# Altium footprint library WR-TBL_Spring Clamp_5.00mm.PcbLib: 78 footprints (part 2 of 5)
Each footprint in its own frame and in the unit in brackets; x right, y up, seen from the top. Pads: shape width x height; smd on the part's side, far side on the other; paste and mask are expansions set on the pad; w line width, h text height; cw(c..) or ccw(c..) is an arc to the next point about the centre after c.
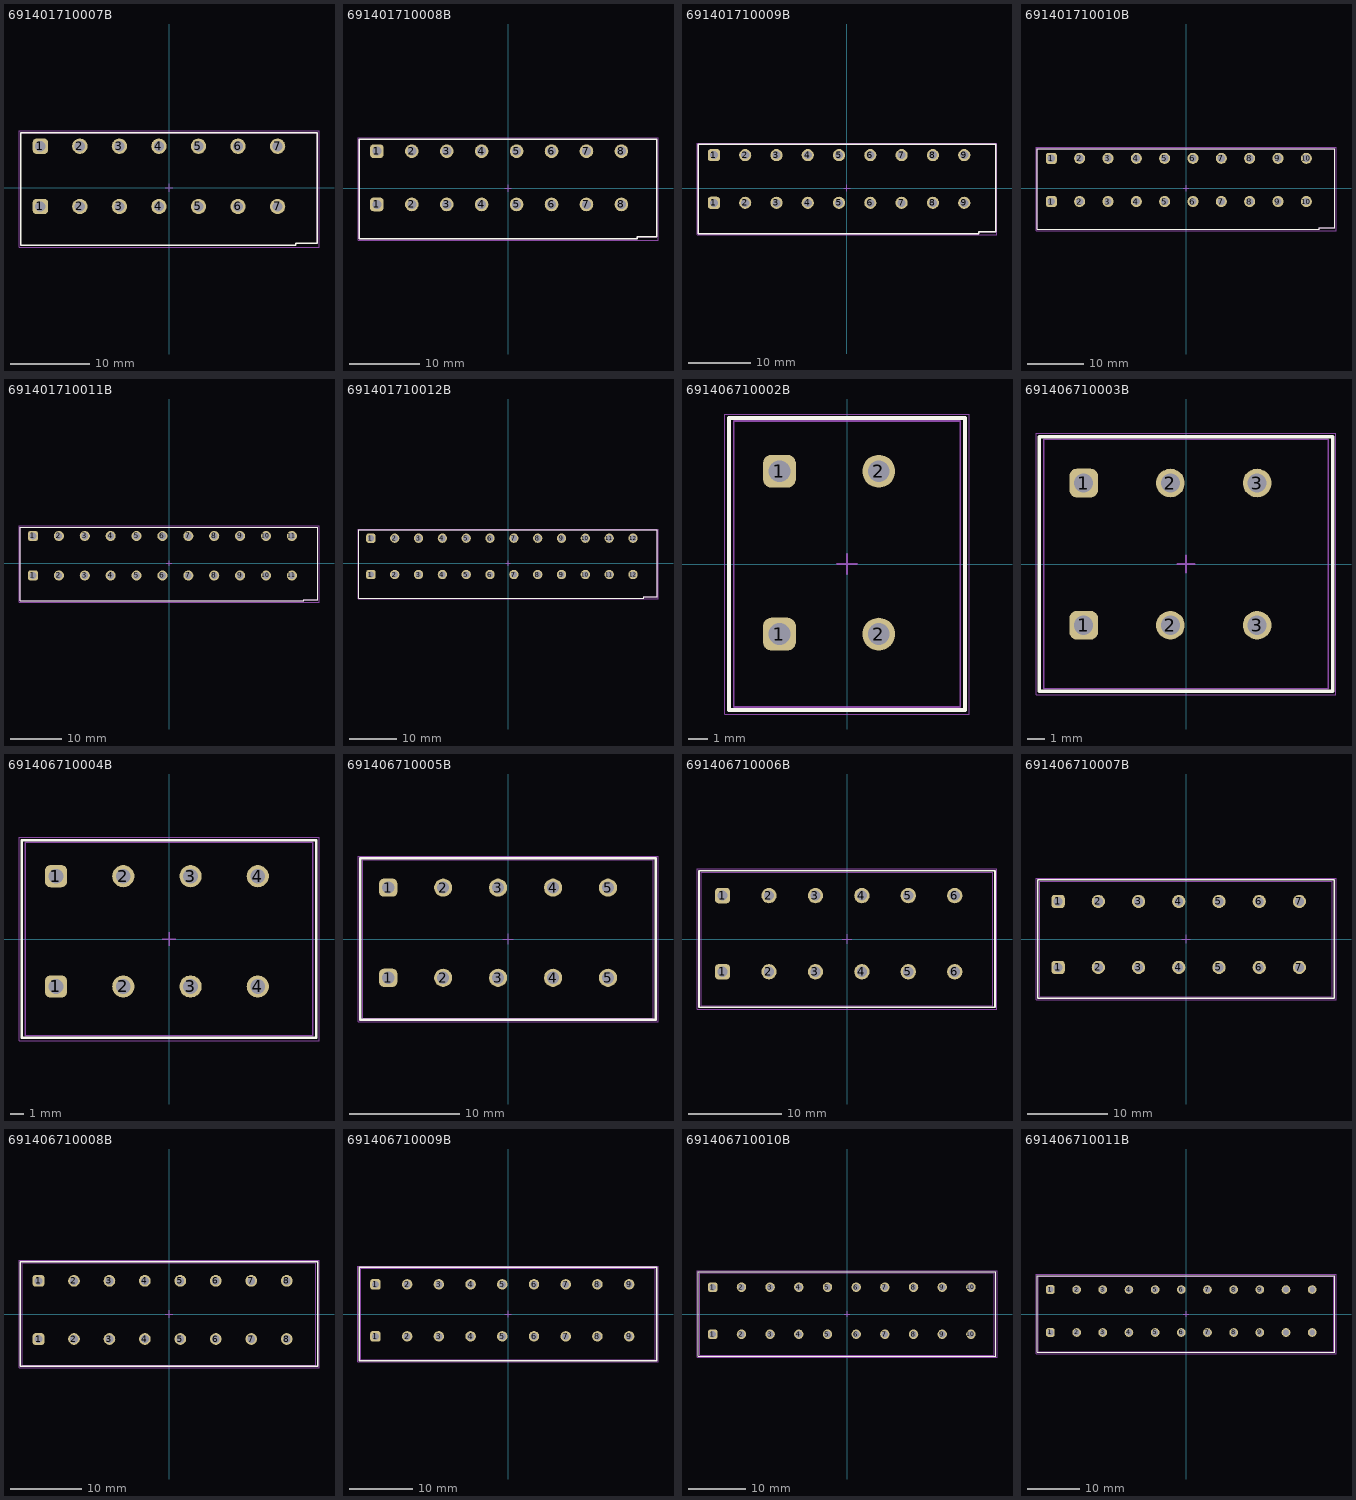
[diagram p1: the footprints below, top view; thin cyan lines are the x and y axes]

## 691401710007B [mm] "5.00 mm Screwless Horizontal Entry - 2.0 mm2 Wires, 7p"
height 13
pads (14):
  rrect50% 1.95x1.95 hole 1.3: 1(-16.27,-2.35) 1(-16.27,5.27)
  round 1.95 hole 1.3: 2(-11.27,-2.35) 2(-11.27,5.27) 3(-6.27,-2.35) 3(-6.27,5.27) 4(-1.27,-2.35) 4(-1.27,5.27) 5(3.73,-2.35) 5(3.73,5.27) 6(8.73,-2.35) 6(8.73,5.27) 7(13.73,-2.35) 7(13.73,5.27)
Top Overlay:
  lines w0.2: -18.77,-7.28 16.03,-7.28 16.03,-7 18.77,-7 18.77,7 -18.77,7 -18.77,-7.275
Top Assembly:
  lines w0.1: -18.77,-7.28 16.03,-7.28 16.03,-7 18.77,-7 18.77,7 -18.77,7 -18.77,-7.275
Top Designator:
  text ".Designator" at -3.647,-0.357 h1
Top 3D Body:
  lines w0.1: -18.77,-7.28 16.03,-7.28 16.03,-7 18.77,-7 18.77,7 -18.77,7 -18.77,-7.275
Top Courtyard:
  lines w0.05: -18.97,-7.48 18.97,-7.48 18.97,7.2 -18.97,7.2 -18.97,-7.48
Top Component Center:
  lines w0.1: -0.5,0 0.5,0 ; 0,-0.5 0,0.5
3D body "691401710007B.stp": height 13.1, standoff -3.35, extent -18.77,-7.28 18.77,6.995

## 691401710008B [mm] "5.00 mm Screwless Horizontal Entry - 2.0 mm2 Wires, 8p"
height 13
pads (16):
  rrect50% 1.95x1.95 hole 1.3: 1(-18.77,-2.35) 1(-18.77,5.27)
  round 1.95 hole 1.3: 2(-13.77,-2.35) 2(-13.77,5.27) 3(-8.77,-2.35) 3(-8.77,5.27) 4(-3.77,-2.35) 4(-3.77,5.27) 5(1.23,-2.35) 5(1.23,5.27) 6(6.23,-2.35) 6(6.23,5.27) 7(11.23,-2.35) 7(11.23,5.27) 8(16.23,-2.35) 8(16.23,5.27)
Top Overlay:
  lines w0.2: -21.27,-7.28 18.53,-7.28 18.53,-7 21.27,-7 21.27,7 -21.27,7 -21.27,-7.275
Top Assembly:
  lines w0.1: -21.27,-7.28 18.53,-7.28 18.53,-7 21.27,-7 21.27,7 -21.27,7 -21.27,-7.275
Top Designator:
  text ".Designator" at -3.647,-0.357 h1
Top 3D Body:
  lines w0.1: -21.27,-7.28 18.53,-7.28 18.53,-7 21.27,-7 21.27,7 -21.27,7 -21.27,-7.275
Top Courtyard:
  lines w0.05: -21.47,-7.48 -21.47,7.2 21.47,7.2 21.47,-7.48 -21.47,-7.48
Top Component Center:
  lines w0.1: -0.5,0 0.5,0 ; 0,-0.5 0,0.5
3D body "691401710008B.stp": height 13.1, standoff -3.35, extent -21.27,-7.28 21.27,6.995

## 691401710009B [mm] "5.00 mm Screwless Horizontal Entry - 2.0 mm2 Wires, 9p"
height 13
pads (18):
  rrect50% 1.95x1.95 hole 1.3: 1(-21.27,-2.35) 1(-21.27,5.27)
  round 1.95 hole 1.3: 2(-16.27,-2.35) 2(-16.27,5.27) 3(-11.27,-2.35) 3(-11.27,5.27) 4(-6.27,-2.35) 4(-6.27,5.27) 5(-1.27,-2.35) 5(-1.27,5.27) 6(3.73,-2.35) 6(3.73,5.27) 7(8.73,-2.35) 7(8.73,5.27) 8(13.73,-2.35) 8(13.73,5.27) 9(18.73,-2.35) 9(18.73,5.27)
Top Overlay:
  lines w0.2: -23.77,-7.28 21.03,-7.28 21.03,-7 23.77,-7 23.77,7 -23.77,7 -23.77,-7.275
Top Assembly:
  lines w0.1: -23.77,-7.28 21.03,-7.28 21.03,-7 23.77,-7 23.77,7 -23.77,7 -23.77,-7.275
Top Designator:
  text ".Designator" at -3.647,-0.357 h1
Top 3D Body:
  lines w0.1: -23.77,-7.28 21.03,-7.28 21.03,-7 23.77,-7 23.77,7 -23.77,7 -23.77,-7.275
Top Courtyard:
  lines w0.05: -23.97,-7.48 -23.97,7.2 23.97,7.2 23.97,-7.48 -23.97,-7.48
Top Component Center:
  lines w0.1: -0.5,0 0.5,0 ; 0,-0.5 0,0.5
3D body "691401710009B.stp": height 13.1, standoff -3.35, extent -23.77,-7.28 23.77,6.995

## 691401710010B [mm] "5.00 mm Screwless Horizontal Entry - 2.0 mm2 Wires, 10p"
height 13
pads (20):
  rrect50% 1.95x1.95 hole 1.3: 1(-23.77,-2.35) 1(-23.77,5.27)
  round 1.95 hole 1.3: 2(-18.77,-2.35) 2(-18.77,5.27) 3(-13.77,-2.35) 3(-13.77,5.27) 4(-8.77,-2.35) 4(-8.77,5.27) 5(-3.77,-2.35) 5(-3.77,5.27) 6(1.23,-2.35) 6(1.23,5.27) 7(6.23,-2.35) 7(6.23,5.27) 8(11.23,-2.35) 8(11.23,5.27) 9(16.23,-2.35) 9(16.23,5.27) 10(21.23,-2.35) 10(21.23,5.27)
Top Overlay:
  lines w0.2: -26.27,-7.28 23.53,-7.28 23.53,-7 26.27,-7 26.27,7 -26.27,7 -26.27,-7.275
Top Assembly:
  lines w0.1: -26.27,-7.28 23.53,-7.28 23.53,-7 26.27,-7 26.27,7 -26.27,7 -26.27,-7.275
Top Designator:
  text ".Designator" at -3.647,-0.357 h1
Top 3D Body:
  lines w0.1: -26.27,-7.28 23.53,-7.28 23.53,-7 26.27,-7 26.27,7 -26.27,7 -26.27,-7.275
Top Courtyard:
  lines w0.05: -26.47,-7.48 -26.47,7.2 26.47,7.2 26.47,-7.48 -26.47,-7.48
Top Component Center:
  lines w0.1: -0.5,0 0.5,0 ; 0,-0.5 0,0.5
3D body "691401710010B.stp": height 13.1, standoff -3.35, extent -26.27,-7.28 26.27,6.995

## 691401710011B [mm] "5.00 mm Screwless Horizontal Entry - 2.0 mm2 Wires, 11p"
height 13
pads (22):
  rrect50% 1.95x1.95 hole 1.3: 1(-26.27,-2.35) 1(-26.27,5.27)
  round 1.95 hole 1.3: 2(-21.27,-2.35) 2(-21.27,5.27) 3(-16.27,-2.35) 3(-16.27,5.27) 4(-11.27,-2.35) 4(-11.27,5.27) 5(-6.27,-2.35) 5(-6.27,5.27) 6(-1.27,-2.35) 6(-1.27,5.27) 7(3.73,-2.35) 7(3.73,5.27) 8(8.73,-2.35) 8(8.73,5.27) 9(13.73,-2.35) 9(13.73,5.27) 10(18.73,-2.35) 10(18.73,5.27) 11(23.73,-2.35) 11(23.73,5.27)
Top Overlay:
  lines w0.2: -28.77,-7.28 26.03,-7.28 26.03,-7 28.77,-7 28.77,7 -28.77,7 -28.77,-7.275
Top Assembly:
  lines w0.1: -28.77,-7.28 26.03,-7.28 26.03,-7 28.77,-7 28.77,7 -28.77,7 -28.77,-7.275
Top Designator:
  text ".Designator" at -3.647,-0.357 h1
Top 3D Body:
  lines w0.1: -28.77,-7.28 26.03,-7.28 26.03,-7 28.77,-7 28.77,7 -28.77,7 -28.77,-7.275
Top Courtyard:
  lines w0.05: -28.97,-7.48 28.97,-7.48 28.97,7.2 -28.97,7.2 -28.97,-7.48
Top Component Center:
  lines w0.1: -0.5,0 0.5,0 ; 0,-0.5 0,0.5
3D body "691401710011B.stp": height 13.1, standoff -3.35, extent -28.77,-7.28 28.77,6.995

## 691401710012B [mm] "5.00 mm Screwless Horizontal Entry - 2.0 mm2 Wires, 12p"
height 13
pads (24):
  rrect50% 1.95x1.95 hole 1.3: 1(-28.77,-2.35) 1(-28.77,5.27)
  round 1.95 hole 1.3: 2(-23.77,-2.35) 2(-23.77,5.27) 3(-18.77,-2.35) 3(-18.77,5.27) 4(-13.77,-2.35) 4(-13.77,5.27) 5(-8.77,-2.35) 5(-8.77,5.27) 6(-3.77,-2.35) 6(-3.77,5.27) 7(1.23,-2.35) 7(1.23,5.27) 8(6.23,-2.35) 8(6.23,5.27) 9(11.23,-2.35) 9(11.23,5.27) 10(16.23,-2.35) 10(16.23,5.27) 11(21.23,-2.35) 11(21.23,5.27) 12(26.23,-2.35) 12(26.23,5.27)
Top Overlay:
  lines w0.2: -31.27,-7.28 28.53,-7.28 28.53,-7 31.27,-7 31.27,7 -31.27,7 -31.27,-7.275
Top Assembly:
  lines w0.1: -31.27,-7.28 28.53,-7.28 28.53,-7 31.27,-7 31.27,7 -31.27,7 -31.27,-7.275
Top Designator:
  text ".Designator" at -3.647,-0.357 h1
Top 3D Body:
  lines w0.1: -31.27,-7.28 28.53,-7.28 28.53,-7 31.27,-7 31.27,7 -31.27,7 -31.27,-7.275
Top Courtyard:
  lines w0.05: -31.47,-7.48 -31.47,7.2 31.47,7.2 31.47,-7.48 -31.47,-7.48
Top Component Center:
  lines w0.1: -0.5,0 0.5,0 ; 0,-0.5 0,0.5
3D body "691401710012B.stp": height 13.1, standoff -3.35, extent -31.27,-7.28 31.27,6.995

## 691406710002B [mm] "5.0MM HORIZONTAL SCREWLESS PUSH IN, 2p"
height 13.5
pads (4):
  rrect50% 1.65x1.65 hole 1.1: 1(-3.4,-3.53) 1(-3.4,4.67)
  round 1.65 hole 1.1: 2(1.6,-3.53) 2(1.6,4.67)
Top Overlay:
  lines w0.2: -5.95,-7.35 -5.95,7.35 5.95,7.35 5.95,-7.35 -5.95,-7.35
Top Assembly:
  lines w0.1: -5.7,-7.2 -5.7,7.2 5.7,7.2 5.7,-7.2 -5.7,-7.2
Top Designator:
  text ".Designator" at -3.647,-0.357 h1
Top 3D Body:
  lines w0.1: -5.7,-7.2 5.7,-7.2 5.7,7.2 -5.7,7.2 -5.7,-7.2
Top Courtyard:
  lines w0.05: -6.15,-7.55 6.15,-7.55 6.15,7.55 -6.15,7.55 -6.15,-7.55
Top Component Center:
  lines w0.1: -0.5,0 0.5,0 ; 0,-0.5 0,0.5
3D body "691406710002B.stp": height 13.55, standoff -2.45, extent -5.7,-7.2 5.7,7.2

## 691406710003B [mm] "5.0MM HORIZONTAL SCREWLESS PUSH IN, 3p"
height 13.5
pads (6):
  rrect50% 1.65x1.65 hole 1.1: 1(-5.9,-3.53) 1(-5.9,4.67)
  round 1.65 hole 1.1: 2(-0.9,-3.53) 2(-0.9,4.67) 3(4.1,-3.53) 3(4.1,4.67)
Top Overlay:
  lines w0.2: -8.45,-7.35 -8.45,7.35 8.45,7.35 8.45,-7.35 -8.45,-7.35
Top Assembly:
  lines w0.1: -8.2,-7.2 -8.2,7.2 8.2,7.2 8.2,-7.2 -8.2,-7.2
Top Designator:
  text ".Designator" at -3.647,-0.357 h1
Top 3D Body:
  lines w0.1: -8.2,-7.2 8.2,-7.2 8.2,7.2 -8.2,7.2 -8.2,-7.2
Top Courtyard:
  lines w0.05: -8.65,-7.55 8.65,-7.55 8.65,7.55 -8.65,7.55 -8.65,-7.55
Top Component Center:
  lines w0.1: -0.5,0 0.5,0 ; 0,-0.5 0,0.5
3D body "691406710003B.stp": height 13.55, standoff -2.45, extent -8.2,-7.2 8.2,7.2

## 691406710004B [mm] "5.0MM HORIZONTAL SCREWLESS PUSH IN, 4p"
height 13.5
pads (8):
  rrect50% 1.65x1.65 hole 1.1: 1(-8.4,-3.53) 1(-8.4,4.67)
  round 1.65 hole 1.1: 2(-3.4,-3.53) 2(-3.4,4.67) 3(1.6,-3.53) 3(1.6,4.67) 4(6.6,-3.53) 4(6.6,4.67)
Top Overlay:
  lines w0.2: -10.95,-7.35 10.95,-7.35 10.95,7.35 -10.95,7.35 -10.95,-7.35
Top Assembly:
  lines w0.1: -10.7,-7.2 10.7,-7.2 10.7,7.2 -10.7,7.2 -10.7,-7.2
Top Designator:
  text ".Designator" at -3.647,-0.357 h1
Top 3D Body:
  lines w0.1: -10.7,-7.2 -10.7,7.2 10.7,7.2 10.7,-7.2 -10.7,-7.2
Top Courtyard:
  lines w0.05: -11.15,-7.55 -11.15,7.55 11.15,7.55 11.15,-7.55 -11.15,-7.55
Top Component Center:
  lines w0.1: -0.5,0 0.5,0 ; 0,-0.5 0,0.5
3D body "691406710004B.stp": height 13.55, standoff -2.45, extent -10.7,-7.2 10.7,7.2

## 691406710005B [mm] "5.0MM HORIZONTAL SCREWLESS PUSH IN, 5p"
height 13.5
pads (10):
  rrect50% 1.65x1.65 hole 1.1: 1(-10.9,-3.53) 1(-10.9,4.67)
  round 1.65 hole 1.1: 2(-5.9,-3.53) 2(-5.9,4.67) 3(-0.9,-3.53) 3(-0.9,4.67) 4(4.1,-3.53) 4(4.1,4.67) 5(9.1,-3.53) 5(9.1,4.67)
Top Overlay:
  lines w0.2: -13.45,-7.35 13.45,-7.35 13.45,7.35 -13.45,7.35 -13.45,-7.35
Top Assembly:
  lines w0.1: -13.2,-7.2 13.2,-7.2 13.2,7.2 -13.2,7.2 -13.2,-7.2
Top Designator:
  text ".Designator" at -3.647,-0.357 h1
Top 3D Body:
  lines w0.1: -13.2,-7.2 -13.2,7.2 13.2,7.2 13.2,-7.2 -13.2,-7.2
Top Courtyard:
  lines w0.05: -13.65,-7.55 -13.65,7.55 13.65,7.55 13.65,-7.55 -13.65,-7.55
Top Component Center:
  lines w0.1: -0.5,0 0.5,0 ; 0,-0.5 0,0.5
3D body "691406710005B.stp": height 13.55, standoff -2.45, extent -13.2,-7.2 13.2,7.2

## 691406710006B [mm] "5.0MM HORIZONTAL SCREWLESS PUSH IN, 6p"
height 13.5
pads (12):
  rrect50% 1.65x1.65 hole 1.1: 1(-13.4,-3.53) 1(-13.4,4.67)
  round 1.65 hole 1.1: 2(-8.4,-3.53) 2(-8.4,4.67) 3(-3.4,-3.53) 3(-3.4,4.67) 4(1.6,-3.53) 4(1.6,4.67) 5(6.6,-3.53) 5(6.6,4.67) 6(11.6,-3.53) 6(11.6,4.67)
Top Overlay:
  lines w0.2: -15.95,-7.35 15.95,-7.35 15.95,7.35 -15.95,7.35 -15.95,-7.35
Top Assembly:
  lines w0.1: -15.7,-7.2 15.7,-7.2 15.7,7.2 -15.7,7.2 -15.7,-7.2
Top Designator:
  text ".Designator" at -3.647,-0.357 h1
Top 3D Body:
  lines w0.1: -15.7,-7.2 -15.7,7.2 15.7,7.2 15.7,-7.2 -15.7,-7.2
Top Courtyard:
  lines w0.05: -16.15,-7.55 -16.15,7.55 16.15,7.55 16.15,-7.55 -16.15,-7.55
Top Component Center:
  lines w0.1: -0.5,0 0.5,0 ; 0,-0.5 0,0.5
3D body "691406710006B.stp": height 13.55, standoff -2.45, extent -15.7,-7.2 15.7,7.2

## 691406710007B [mm] "5.0MM HORIZONTAL SCREWLESS PUSH IN, 7p"
height 13.5
pads (14):
  rrect50% 1.65x1.65 hole 1.1: 1(-15.9,-3.53) 1(-15.9,4.67)
  round 1.65 hole 1.1: 2(-10.9,-3.53) 2(-10.9,4.67) 3(-5.9,-3.53) 3(-5.9,4.67) 4(-0.9,-3.53) 4(-0.9,4.67) 5(4.1,-3.53) 5(4.1,4.67) 6(9.1,-3.53) 6(9.1,4.67) 7(14.1,-3.53) 7(14.1,4.67)
Top Overlay:
  lines w0.2: -18.45,-7.35 -18.45,7.35 18.45,7.35 18.45,-7.35 -18.45,-7.35
Top Assembly:
  lines w0.1: -18.2,-7.2 -18.2,7.2 18.2,7.2 18.2,-7.2 -18.2,-7.2
Top Designator:
  text ".Designator" at -3.647,-0.357 h1
Top 3D Body:
  lines w0.1: -18.2,-7.2 18.2,-7.2 18.2,7.2 -18.2,7.2 -18.2,-7.2
Top Courtyard:
  lines w0.05: -18.65,-7.55 18.65,-7.55 18.65,7.55 -18.65,7.55 -18.65,-7.55
Top Component Center:
  lines w0.1: -0.5,0 0.5,0 ; 0,-0.5 0,0.5
3D body "691406710007B.stp": height 13.55, standoff -2.45, extent -18.2,-7.2 18.2,7.2

## 691406710008B [mm] "5.0MM HORIZONTAL SCREWLESS PUSH IN, 8p"
height 13.5
pads (16):
  rrect50% 1.65x1.65 hole 1.1: 1(-18.4,-3.53) 1(-18.4,4.67)
  round 1.65 hole 1.1: 2(-13.4,-3.53) 2(-13.4,4.67) 3(-8.4,-3.53) 3(-8.4,4.67) 4(-3.4,-3.53) 4(-3.4,4.67) 5(1.6,-3.53) 5(1.6,4.67) 6(6.6,-3.53) 6(6.6,4.67) 7(11.6,-3.53) 7(11.6,4.67) 8(16.6,-3.53) 8(16.6,4.67)
Top Overlay:
  lines w0.2: -20.95,-7.35 -20.95,7.35 20.95,7.35 20.95,-7.35 -20.95,-7.35
Top Assembly:
  lines w0.1: -20.7,-7.2 -20.7,7.2 20.7,7.2 20.7,-7.2 -20.7,-7.2
Top Designator:
  text ".Designator" at -3.647,-0.357 h1
Top 3D Body:
  lines w0.1: -20.7,-7.2 20.7,-7.2 20.7,7.2 -20.7,7.2 -20.7,-7.2
Top Courtyard:
  lines w0.05: -21.15,-7.55 21.15,-7.55 21.15,7.55 -21.15,7.55 -21.15,-7.55
Top Component Center:
  lines w0.1: -0.5,0 0.5,0 ; 0,-0.5 0,0.5
3D body "691406710008B.stp": height 13.55, standoff -2.45, extent -20.7,-7.2 20.7,7.2

## 691406710009B [mm] "5.0MM HORIZONTAL SCREWLESS PUSH IN, 9p"
height 13.5
pads (18):
  rrect50% 1.65x1.65 hole 1.1: 1(-20.9,-3.53) 1(-20.9,4.67)
  round 1.65 hole 1.1: 2(-15.9,-3.53) 2(-15.9,4.67) 3(-10.9,-3.53) 3(-10.9,4.67) 4(-5.9,-3.53) 4(-5.9,4.67) 5(-0.9,-3.53) 5(-0.9,4.67) 6(4.1,-3.53) 6(4.1,4.67) 7(9.1,-3.53) 7(9.1,4.67) 8(14.1,-3.53) 8(14.1,4.67) 9(19.1,-3.53) 9(19.1,4.67)
Top Overlay:
  lines w0.2: -23.45,-7.35 23.45,-7.35 23.45,7.35 -23.45,7.35 -23.45,-7.35
Top Assembly:
  lines w0.1: -23.2,-7.2 23.2,-7.2 23.2,7.2 -23.2,7.2 -23.2,-7.2
Top Designator:
  text ".Designator" at -3.647,-0.357 h1
Top 3D Body:
  lines w0.1: -23.2,-7.2 -23.2,7.2 23.2,7.2 23.2,-7.2 -23.2,-7.2
Top Courtyard:
  lines w0.05: -23.65,-7.55 -23.65,7.55 23.65,7.55 23.65,-7.55 -23.65,-7.55
Top Component Center:
  lines w0.1: -0.5,0 0.5,0 ; 0,-0.5 0,0.5
3D body "691406710009B.stp": height 13.55, standoff -2.45, extent -23.2,-7.2 23.2,7.2

## 691406710010B [mm] "5.0MM HORIZONTAL SCREWLESS PUSH IN, 10p"
height 13.5
pads (20):
  rrect50% 1.65x1.65 hole 1.1: 1(-23.4,-3.53) 1(-23.4,4.67)
  round 1.65 hole 1.1: 2(-18.4,-3.53) 2(-18.4,4.67) 3(-13.4,-3.53) 3(-13.4,4.67) 4(-8.4,-3.53) 4(-8.4,4.67) 5(-3.4,-3.53) 5(-3.4,4.67) 6(1.6,-3.53) 6(1.6,4.67) 7(6.6,-3.53) 7(6.6,4.67) 8(11.6,-3.53) 8(11.6,4.67) 9(16.6,-3.53) 9(16.6,4.67) 10(21.6,-3.53) 10(21.6,4.67)
Top Overlay:
  lines w0.2: -25.95,-7.35 25.95,-7.35 25.95,7.35 -25.95,7.35 -25.95,-7.35
Top Assembly:
  lines w0.1: -25.7,-7.2 25.7,-7.2 25.7,7.2 -25.7,7.2 -25.7,-7.2
Top Designator:
  text ".Designator" at -3.647,-0.357 h1
Top 3D Body:
  lines w0.1: -25.7,-7.2 -25.7,7.2 25.7,7.2 25.7,-7.2 -25.7,-7.2
Top Courtyard:
  lines w0.05: -26.15,-7.55 -26.15,7.55 26.15,7.55 26.15,-7.55 -26.15,-7.55
Top Component Center:
  lines w0.1: -0.5,0 0.5,0 ; 0,-0.5 0,0.5
3D body "691406710010B.stp": height 13.55, standoff -2.45, extent -25.7,-7.2 25.7,7.2

## 691406710011B [mm] "5.0MM HORIZONTAL SCREWLESS PUSH IN, 11p"
height 13.5
pads (22):
  rrect50% 1.65x1.65 hole 1.1: 1(-25.9,-3.53) 1(-25.9,4.67)
  round 1.65 hole 1.1: 2(-20.9,-3.53) 2(-20.9,4.67) 3(-15.9,-3.53) 3(-15.9,4.67) 4(-10.9,-3.53) 4(-10.9,4.67) 5(-5.9,-3.53) 5(-5.9,4.67) 6(-0.9,-3.53) 6(-0.9,4.67) 7(4.1,-3.53) 7(4.1,4.67) 8(9.1,-3.53) 8(9.1,4.67) 9(14.1,-3.53) 9(14.1,4.67) 10(19.1,-3.53) 10(19.1,4.67) 11(24.1,-3.53) 11(24.1,4.67)
Top Overlay:
  lines w0.2: -28.45,-7.35 28.45,-7.35 28.45,7.35 -28.45,7.35 -28.45,-7.35
Top Assembly:
  lines w0.1: -28.2,-7.2 28.2,-7.2 28.2,7.2 -28.2,7.2 -28.2,-7.2
Top Designator:
  text ".Designator" at -3.647,-0.357 h1
Top 3D Body:
  lines w0.1: -28.2,-7.2 -28.2,7.2 28.2,7.2 28.2,-7.2 -28.2,-7.2
Top Courtyard:
  lines w0.05: -28.65,-7.55 -28.65,7.55 28.65,7.55 28.65,-7.55 -28.65,-7.55
Top Component Center:
  lines w0.1: -0.5,0 0.5,0 ; 0,-0.5 0,0.5
3D body "691406710011B.stp": height 13.55, standoff -2.45, extent -28.2,-7.2 28.2,7.2